# Altium footprint library DIO-SMA.PcbLib: 12 footprints
Each footprint in its own frame and in the unit in brackets; x right, y up, seen from the top. Pads: shape width x height; smd on the part's side, far side on the other; paste and mask are expansions set on the pad; w line width, h text height; cw(c..) or ccw(c..) is an arc to the next point about the centre after c.
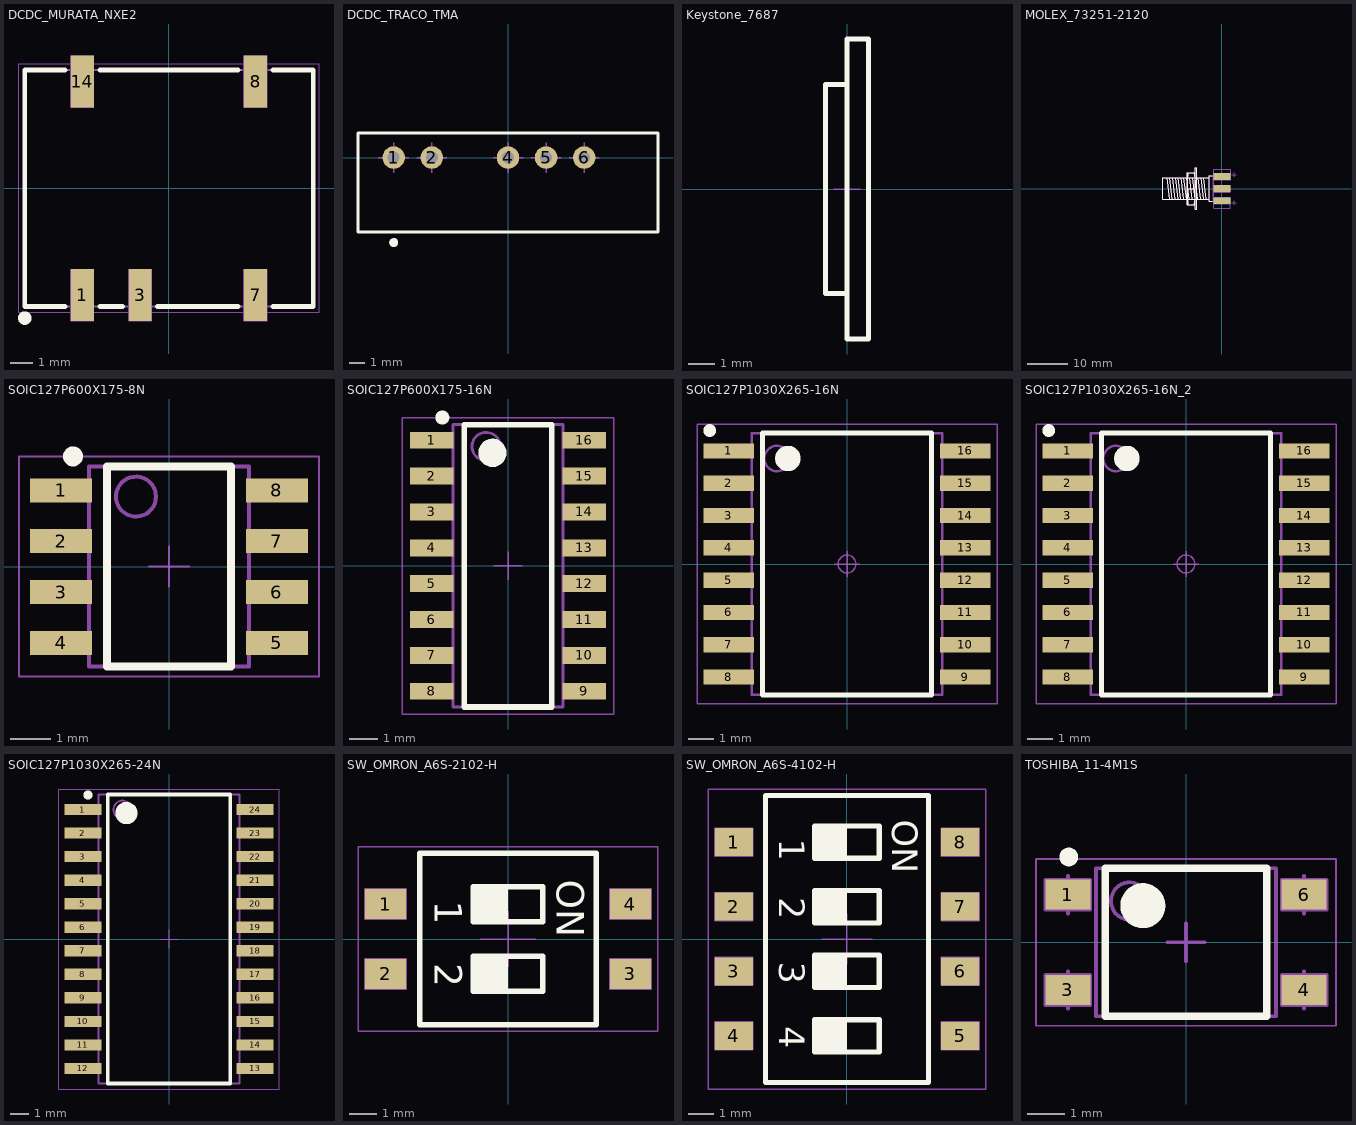
[diagram p0: the footprints below, top view; thin cyan lines are the x and y axes]

## DCDC_MURATA_NXE2 [mm] "NXE2 Series, Body 12.7 x 10.4, Height 4.4mm"
height 4.4
pads (5):
  rect 1x2.3 smd: 1(-3.81,-4.7) 3(-1.27,-4.7) 7(3.81,-4.7) 8(3.81,4.7) 14(-3.81,4.7)
Top Overlay:
  circle w0.3: c-6.35,-5.715 r0.15
  lines w0.203: -3.048,-5.207 -2.032,-5.207 ; -3.048,5.207 3.048,5.207 ; -0.508,-5.207 3.048,-5.207 ; 4.572,5.207 6.35,5.207 ; -4.572,-5.207 -6.35,-5.207 -6.35,5.207 -4.572,5.207 ; -4.572,-5.207 -4.572,-5.207 ; -4.572,5.207 -4.572,5.207 ; 4.572,-5.207 6.35,-5.207 6.35,5.207 ; 4.572,-5.207 4.572,-5.207 ; 6.35,5.207 6.35,5.207
Mechanical 8:
  lines w0.05: -4.31,-4.699 -3.81,-4.699 -3.31,-4.699 ; -4.31,4.701 -3.81,4.701 -3.31,4.701 ; -3.81,-5.842 -3.81,-4.101 -3.81,-3.601 ; -3.81,3.558 -3.81,5.299 -3.81,5.799 ; -1.77,-4.699 -1.27,-4.699 -0.77,-4.699 ; -1.27,-5.842 -1.27,-4.101 -1.27,-3.601 ; 3.31,-4.699 3.81,-4.699 4.31,-4.699 ; 3.31,4.701 3.81,4.701 4.31,4.701 ; 3.81,-5.842 3.81,-4.101 3.81,-3.601 ; 3.81,3.558 3.81,5.299 3.81,5.799 ; -4.318,-5.842 -3.302,-5.842 -3.302,-3.556 -4.318,-3.556 -4.318,-5.842 ; -4.318,3.558 -3.302,3.558 -3.302,5.844 -4.318,5.844 -4.318,3.558 ; -1.778,-5.842 -0.762,-5.842 -0.762,-3.556 -1.778,-3.556 -1.778,-5.842 ; 3.302,-5.842 3.302,-3.556 4.318,-3.556 4.318,-5.842 3.302,-5.842 ; 3.302,3.558 4.318,3.558 4.318,5.844 3.302,5.844 3.302,3.558
Mechanical 14:
  circle w0.1: c-6.35,-5.715 r0.2
  lines w0.1: -4.07,5.207 -6.35,5.207 -6.35,-5.207 ; -4.057,5.207 ccw(c-3.81,5.207) -3.563,5.207 3.55,5.207 ; -3.563,-5.207 ccw(c-3.81,-5.207) -4.057,-5.207 -6.35,-5.207 ; -3.55,-5.207 -1.517,-5.207 cw(c-1.27,-5.207) -1.023,-5.207 ; -1.01,-5.207 3.563,-5.207 cw(c3.81,-5.207) 4.057,-5.207 ; 3.563,5.207 ccw(c3.81,5.207) 4.057,5.207 6.35,5.207 ; 4.07,-5.207 6.35,-5.207 6.35,5.207 ; -6.35,-5.207 -6.35,-5.207 ; 6.35,5.207 6.35,5.207
Mechanical 15:
  lines w0.05: -6.604,-5.461 -6.604,5.485 6.604,5.485 6.604,-5.461 -6.604,-5.461
3D body "mps_dcdc_nxe2s_mc_a.step": height 4.41, standoff 0, extent -6.35,-5.207 6.35,5.207

## DCDC_TRACO_TMA [mm] "TMA Series , Body 19.5x6.1mm, SIP-6, Unregulated"
height 10.45
pads (5):
  round 1.5 hole 0.8: 1(-7.62,0) 2(-5.08,0) 4(0,0) 5(2.54,0) 6(5.08,0)
Top Overlay:
  circle w0.3: c-7.62,-5.667 r0.15
  lines w0.2: -10,-4.975 10,-4.975 10,1.625 -10,1.625 -10,-4.975
Mechanical 8:
  lines w0.1: -8.62,0 -7.62,0 ; -7.62,-1 -7.62,0 ; -7.62,1 -7.62,0 ; -6.62,0 -7.62,0 ; -6.08,0 -5.08,0 ; -5.08,-1 -5.08,0 ; -5.08,1 -5.08,0 ; -4.08,0 -5.08,0 ; -1,0 0,0 ; 0,-1 0,0 ; 0,1 0,0 ; 1,0 0,0 ; 1.54,0 2.54,0 ; 2.54,-1 2.54,0 ; 2.54,1 2.54,0 ; 3.54,0 2.54,0 ; 4.08,0 5.08,0 ; 5.08,-1 5.08,0 ; 5.08,1 5.08,0 ; 6.08,0 5.08,0
Mechanical 14:
  lines w0.1: -10,-4.975 10,-4.975 10,1.625 -10,1.625 -10,-4.975
  text "6" at 5.863,-2.157 h1.5
  text "1" at -6.87,-2.03 h1.5
3D body "DCDC_TRACO_TMA.stp": height 10.45, standoff -3.2, extent -10,-4.975 10,1.725

## Keystone_7687 [mm] "Polyphenylene Sulfide PPS Shoulder Washer"
height 8
Top Overlay:
  lines w0.2: 0,-3.9 -0.8,-3.9 -0.8,3.9 0,3.9 ; 0,-5.6 0.8,-5.6 0.8,5.6 0,5.6 0,-5.6
Mechanical 8:
  lines w0.05: -0.5,0 0,0 ; 0,-0.5 0,0 ; 0,0.5 0,0 ; 0.5,0 0,0
Mechanical 14:
  lines w0.1: 0,-3.9 -0.8,-3.9 -0.8,3.9 0,3.9 ; 0,-5.6 0.8,-5.6 0.8,5.6 0,5.6 0,-5.6

## MOLEX_73251-2120 [mm] "50 Ohm, SMA Edge Mount PCB, With Jam Nut And Lock Washer"
height 6.35
pads (5):
  rect 4.19x1.78 smd: 1(0,0)
  rect 4.19x1.7 smd: 2(0,-3) 2(0,3)
  rect 4.19x1.7 smd far side: 2(0,-3) 2(0,3)
Top Overlay:
  lines w0.2: -13.763,2.642 -13.132,-2.642 ; -13.059,2.642 -12.428,-2.642 ; -12.355,2.642 -11.724,-2.642 ; -11.651,2.642 -11.02,-2.642 ; -10.947,2.642 -10.316,-2.642 ; -10.243,2.642 -9.612,-2.642 ; -9.557,2.642 -8.926,-2.642 ; -8.835,2.642 -8.204,-2.642 ; -8.435,-3.937 cw(c9.828,-1.208) -8.599,0 ; -8.435,3.937 ccw(c9.828,1.208) -8.599,0 ; -8.131,2.642 -7.5,-2.642 ; -7.427,2.642 -6.796,-2.642 ; -6.831,-3.937 ccw(c-26.385,-1.064) -6.65,0 ; -6.831,3.937 cw(c-26.197,1.073) -6.65,0 ; -6.723,2.642 -6.092,-2.642 ; -6.019,2.642 -5.388,-2.642 ; -5.315,2.642 -4.684,-2.642 ; -4.611,2.642 -3.98,-2.642 ; -3.211,-2.642 -14.641,-2.642 -14.641,2.642 -3.211,2.642 ; -2.445,-3.175 -3.211,-3.175 -3.211,3.175 -2.445,3.175 ; -8.599,0 -6.65,0 ; -8.599,-3.937 -8.599,3.937 -6.668,3.937 -6.668,-3.937 -8.599,-3.937 ; -6.668,-5.131 -6.668,5.131 -6.211,5.131 -6.211,-5.131 -6.668,-5.131
Mechanical 8:
  lines w0.1: -0.5,-3.492 0,-3.492 ; -0.5,0 0,0 ; -0.5,3.492 0,3.492 ; 0,-3.992 0,-3.492 ; 0,-2.993 0,-3.492 ; 0,-0.5 0,0 ; 0,0.5 0,0 ; 0,2.993 0,3.492 ; 0,3.992 0,3.492 ; 0.5,-3.492 0,-3.492 ; 0.5,0 0,0 ; 0.5,3.492 0,3.492 ; 2.485,-3.492 2.985,-3.492 ; 2.485,3.492 2.985,3.492 ; 2.985,-3.992 2.985,-3.492 ; 2.985,-2.993 2.985,-3.492 ; 2.985,2.993 2.985,3.492 ; 2.985,3.992 2.985,3.492 ; 3.485,-3.492 2.985,-3.492 ; 3.485,3.492 2.985,3.492 ; -2.095,-4.825 2.095,-4.825 2.095,-2.16 -2.095,-2.16 -2.095,-4.825 ; -2.095,-4.825 -2.095,0 -2.095,4.825 ; -2.095,4.825 2.134,4.825 2.134,2.16 -2.095,2.16 -2.095,4.825 ; -2.095,-0.89 2.095,-0.89 2.095,0.89 -2.095,0.89 -2.095,-0.89
Mechanical 14:
  lines w0.1: -13.763,2.642 -13.132,-2.642 ; -13.059,2.642 -12.428,-2.642 ; -12.355,2.642 -11.724,-2.642 ; -11.651,2.642 -11.02,-2.642 ; -10.947,2.642 -10.316,-2.642 ; -10.243,2.642 -9.612,-2.642 ; -9.557,2.642 -8.926,-2.642 ; -8.835,2.642 -8.204,-2.642 ; -8.435,-3.937 cw(c9.828,-1.208) -8.599,0 ; -8.435,3.937 ccw(c9.828,1.208) -8.599,0 ; -8.131,2.642 -7.5,-2.642 ; -7.427,2.642 -6.796,-2.642 ; -6.831,-3.937 ccw(c-26.385,-1.064) -6.65,0 ; -6.831,3.937 cw(c-26.197,1.073) -6.65,0 ; -6.723,2.642 -6.092,-2.642 ; -6.019,2.642 -5.388,-2.642 ; -5.315,2.642 -4.684,-2.642 ; -4.611,2.642 -3.98,-2.642 ; -3.211,-2.642 -14.641,-2.642 -14.641,2.642 -3.211,2.642 ; -2.195,-3.175 -2.195,3.175 ; -2.195,-0.623 1.361,-0.635 1.615,-0.381 1.615,0.362 1.361,0.635 -2.195,0.635 ; -8.599,0 -6.65,0 ; -8.599,-3.937 -8.599,3.937 -6.668,3.937 -6.668,-3.937 -8.599,-3.937 ; -6.668,-5.131 -6.668,5.131 -6.211,5.131 -6.211,-5.131 -6.668,-5.131 ; -3.211,-3.175 -3.211,3.175 1.615,3.175 1.615,2.159 -2.195,2.159 -2.195,-2.159 1.615,-2.159 1.615,-3.175 -3.211,-3.175
3D body "MOLEX_73251-2121_Part2.stp": height 5.76, standoff -4.49, extent -8.598,-5.131 -6.211,5.131
3D body "MOLEX_73251-2121_Part1.stp": height 3.81, standoff -2.54, extent -14.641,-3.175 1.615,3.175

## SOIC127P600X175-8N [mm] "SOIC 8, Pitch 1.27mm - Body 4x5mm, IPC Medium Density"
height 1.75
pads (8):
  rect 1.55x0.6 smd: 1(-2.7,1.905) 2(-2.7,0.635) 3(-2.7,-0.635) 4(-2.7,-1.905) 5(2.7,-1.905) 6(2.7,-0.635) 7(2.7,0.635) 8(2.7,1.905)
Top Overlay:
  circle w0.25: c-2.4,2.755 r0.125
  lines w0.2: -1.55,-2.5 -1.55,2.5 1.55,2.5 1.55,-2.5 -1.55,-2.5
Mechanical 14:
  circle w0.1: c-0.825,1.75 r0.5
  lines w0.1: -2,-2.5 -2,2.5 2,2.5 2,-2.5 -2,-2.5
Mechanical 15:
  lines w0.05: -0.5,0 0.5,0 ; 0,-0.5 0,0.5 ; -3.75,-2.75 -3.75,2.75 3.75,2.75 3.75,-2.75 -3.75,-2.75
3D body "SOIC127P600X175-8N.stp": height 1.75, standoff 0, extent -3.1,-2.5 3.1,2.5

## SOIC127P600X175-16N [mm] "SOIC 16, Pitch 1.27mm - Body 4x10mm, IPC Medium Density"
height 1.75
pads (16):
  rect 1.55x0.6 smd: 1(-2.7,4.445) 2(-2.7,3.175) 3(-2.7,1.905) 4(-2.7,0.635) 5(-2.7,-0.635) 6(-2.7,-1.905) 7(-2.7,-3.175) 8(-2.7,-4.445) 9(2.7,-4.445) 10(2.7,-3.175) 11(2.7,-1.905) 12(2.7,-0.635) 13(2.7,0.635) 14(2.7,1.905) 15(2.7,3.175) 16(2.7,4.445)
Top Overlay:
  circle w0.5: c-0.55,4 r0.25
  circle w0.25: c-2.325,5.25 r0.125
  lines w0.2: -1.55,-5 1.55,-5 1.55,5 -1.55,5 -1.55,-5
Mechanical 14:
  circle w0.1: c-0.775,4.225 r0.5
  lines w0.1: -1.95,-5 -1.95,5 1.95,5 1.95,-5 -1.95,-5
Mechanical 15:
  lines w0.05: -0.5,0 0.5,0 ; 0,-0.5 0,0.5 ; -3.75,-5.25 3.75,-5.25 3.75,5.25 -3.75,5.25 -3.75,-5.25
3D body "SOIC127P600X175-16N.stp": height 1.75, standoff 0, extent -3.1,-5 3.1,5

## SOIC127P1030X265-16N [mm] "SOIC, 1.27mm Pitch; 16 Pin, 7.50mm W X 10.3mm L X 2.65mm H body, IPC Medium Density"
height 2.65
pads (16):
  rect 2x0.6 smd: 1(-4.65,4.445) 2(-4.65,3.175) 3(-4.65,1.905) 4(-4.65,0.635) 5(-4.65,-0.635) 6(-4.65,-1.905) 7(-4.65,-3.175) 8(-4.65,-4.445) 9(4.65,-4.445) 10(4.65,-3.175) 11(4.65,-1.905) 12(4.65,-0.635) 13(4.65,0.635) 14(4.65,1.905) 15(4.65,3.175) 16(4.65,4.445)
Top Overlay:
  circle w0.5: c-2.325,4.15 r0.25
  circle w0.25: c-5.4,5.25 r0.125
  lines w0.2: -3.325,-5.15 3.325,-5.15 3.325,5.15 -3.325,5.15 -3.325,-5.15
Mechanical 14:
  circle w0.1: c-2.75,4.15 r0.5
  lines w0.1: -3.75,-5.15 3.75,-5.15 3.75,5.15 -3.75,5.15 -3.75,-5.15
Mechanical 15:
  circle w0.05: c0,0 r0.35
  lines w0.05: -0.5,0 0.5,0 ; 0,-0.5 0,0.5 ; -5.9,-5.5 5.9,-5.5 5.9,5.5 -5.9,5.5 -5.9,-5.5
3D body "SOIC127P1030X265-16N.stp": height 1.68, standoff 0, extent -5.18,-5.25 5.18,5.25

## SOIC127P1030X265-16N_2 [mm]
pads (16):
  rect 2x0.6 smd: 1(-4.65,4.445) 2(-4.65,3.175) 3(-4.65,1.905) 4(-4.65,0.635) 5(-4.65,-0.635) 6(-4.65,-1.905) 7(-4.65,-3.175) 8(-4.65,-4.445) 9(4.65,-4.445) 10(4.65,-3.175) 11(4.65,-1.905) 12(4.65,-0.635) 13(4.65,0.635) 14(4.65,1.905) 15(4.65,3.175) 16(4.65,4.445)
Top Overlay:
  circle w0.25: c-5.4,5.25 r0.125
  circle w0.5: c-2.325,4.15 r0.25
  lines w0.2: -3.325,-5.15 -3.325,5.15 3.325,5.15 3.325,-5.15 -3.325,-5.15
Mechanical 14:
  circle w0.1: c-2.75,4.15 r0.5
  lines w0.1: -3.75,-5.15 -3.75,5.15 3.75,5.15 3.75,-5.15 -3.75,-5.15
Mechanical 15:
  circle w0.05: c0,0 r0.35
  lines w0.05: -0.5,0 0.5,0 ; 0,-0.5 0,0.5 ; -5.9,-5.5 -5.9,5.5 5.9,5.5 5.9,-5.5 -5.9,-5.5
3D body "SOIC127P1030X265-16N.stp": height 1.68, standoff 0, extent -5.18,-5.25 5.18,5.25

## SOIC127P1030X265-24N [mm] "SOIC 24, Pitch 1.27mm - Body 7.6x15.6mm, IPC Medium Density"
height 2.65
pads (24):
  rect 2x0.6 smd: 1(-4.65,6.985) 2(-4.65,5.715) 3(-4.65,4.445) 4(-4.65,3.175) 5(-4.65,1.905) 6(-4.65,0.635) 7(-4.65,-0.635) 8(-4.65,-1.905) 9(-4.65,-3.175) 10(-4.65,-4.445) 11(-4.65,-5.715) 12(-4.65,-6.985) 13(4.65,-6.985) 14(4.65,-5.715) 15(4.65,-4.445) 16(4.65,-3.175) 17(4.65,-1.905) 18(4.65,-0.635) 19(4.65,0.635) 20(4.65,1.905) 21(4.65,3.175) 22(4.65,4.445) 23(4.65,5.715) 24(4.65,6.985)
Top Overlay:
  circle w0.6: c-2.3,6.8 r0.3
  circle w0.25: c-4.375,7.775 r0.125
  lines w0.2: -3.3,-7.8 -3.3,7.8 3.3,7.8 3.3,-7.8 -3.3,-7.8
Mechanical 14:
  circle w0.1: c-2.5,6.975 r0.5
  lines w0.1: -3.8,-7.8 3.8,-7.8 3.8,7.8 -3.8,7.8 -3.8,-7.8
Mechanical 15:
  lines w0.05: -0.5,0 0.5,0 ; 0,-0.5 0,0.5 ; -5.95,-8.1 -5.95,8.1 5.95,8.1 5.95,-8.1 -5.95,-8.1
3D body "SOIC127P1030X265-24N.stp": height 1.68, standoff 0, extent -5.18,-7.8 5.18,7.8

## SW_OMRON_A6S-2102-H [mm] "Pitch 2.54mm, Body 6.2x6.4mm, 2 Ways SPST Surface-Mounting DIP Switch, OMRON A6S-H"
height 3.8
pads (4):
  rect 1.5x1.1 smd: 1(-4.45,1.27) 2(-4.45,-1.27) 3(4.45,-1.27) 4(4.45,1.27)
Top Overlay:
  region: -1.27,-0.635 -1.27,-1.905 0,-1.905 0,-0.635
  region: -1.27,1.905 -1.27,0.635 0,0.635 0,1.905
  lines w0.2: -3.2,-3.11 -3.2,3.11 3.2,3.11 3.2,-3.11 -3.2,-3.11 ; -1.27,-1.905 1.27,-1.905 1.27,-0.635 -1.27,-0.635 -1.27,-1.905 ; -1.27,0.635 -1.27,1.905 1.27,1.905 1.27,0.635 -1.27,0.635
  text "ON" at 1.778,2.159 h1
  text "2" at -2.667,-0.889 h1
  text "1" at -2.667,1.397 h1
Mechanical 8:
  lines w0.05: -5.2,1.27 -4.45,1.27 -4.45,0.72 ; -1,0 1,0 ; 0,-1 0,1 ; -5.2,-1.82 -3.7,-1.82 -3.7,-0.72 -5.2,-0.72 -5.2,-1.82 ; -5.2,0.72 -3.7,0.72 -3.7,1.82 -5.2,1.82 -5.2,0.72 ; 3.7,-1.82 3.7,-0.72 5.2,-0.72 5.2,-1.82 3.7,-1.82 ; 3.7,0.72 5.2,0.72 5.2,1.82 3.7,1.82 3.7,0.72
Mechanical 14:
  region: -1.27,1.905 -1.27,0.635 0,0.635 0,1.905
  region: -1.27,-0.635 -1.27,-1.905 0,-1.905 0,-0.635
  lines w0.1: -3.2,-3.11 3.2,-3.11 3.2,3.11 -3.2,3.11 -3.2,-3.11 ; -1.27,-1.905 1.27,-1.905 1.27,-0.635 -1.27,-0.635 -1.27,-1.905 ; -1.27,0.635 -1.27,1.905 1.27,1.905 1.27,0.635 -1.27,0.635
  text "ON" at 1.778,2.159 h1
  text "2" at -2.667,-0.889 h1
  text "1" at -2.667,1.397 h1
Mechanical 15:
  lines w0.05: -5.45,-3.36 -5.45,3.36 5.45,3.36 5.45,-3.36 -5.45,-3.36
3D body "SW_OMRON_A6S-2102-H.stp": height 3.97, standoff 0, extent -4.901,-3.01 4.902,3.01

## SW_OMRON_A6S-4102-H [mm] "Pitch 2.54mm, Body 11.3x6.4mm, 4 Ways SPST Surface-Mounting DIP Switch, OMRON A6S-H"
height 3.8
pads (8):
  rect 1.5x1.1 smd: 1(-4.45,3.81) 2(-4.45,1.27) 3(-4.45,-1.27) 4(-4.45,-3.81) 5(4.45,-3.81) 6(4.45,-1.27) 7(4.45,1.27) 8(4.45,3.81)
Top Overlay:
  region: -1.27,-3.175 -1.27,-4.445 0,-4.445 0,-3.175
  region: -1.27,-0.635 -1.27,-1.905 0,-1.905 0,-0.635
  region: -1.27,1.905 -1.27,0.635 0,0.635 0,1.905
  region: -1.27,4.445 -1.27,3.175 0,3.175 0,4.445
  lines w0.2: -3.2,-5.65 -3.2,5.65 3.2,5.65 3.2,-5.65 -3.2,-5.65 ; -1.27,-4.445 -1.27,-3.175 1.27,-3.175 1.27,-4.445 -1.27,-4.445 ; -1.27,-1.905 -1.27,-0.635 1.27,-0.635 1.27,-1.905 -1.27,-1.905 ; -1.27,0.635 1.27,0.635 1.27,1.905 -1.27,1.905 -1.27,0.635 ; -1.27,3.175 -1.27,4.445 1.27,4.445 1.27,3.175 -1.27,3.175
  text "4" at -2.667,-3.429 h1
  text "3" at -2.667,-0.889 h1
  text "ON" at 1.778,4.699 h1
  text "2" at -2.667,1.651 h1
  text "1" at -2.667,3.937 h1
Mechanical 8:
  lines w0.05: -1,0 1,0 ; 0,-1 0,1 ; -5.2,-4.36 -5.2,-3.26 -3.7,-3.26 -3.7,-4.36 -5.2,-4.36 ; -5.2,-1.82 -5.2,-0.72 -3.7,-0.72 -3.7,-1.82 -5.2,-1.82 ; -5.2,0.72 -5.2,1.82 -3.7,1.82 -3.7,0.72 -5.2,0.72 ; -5.2,3.26 -5.2,4.36 -3.7,4.36 -3.7,3.26 -5.2,3.26 ; -3.2,-5.65 -3.2,5.65 3.2,5.65 3.2,-5.65 -3.2,-5.65 ; 3.7,-4.36 5.2,-4.36 5.2,-3.26 3.7,-3.26 3.7,-4.36 ; 3.7,-1.82 5.2,-1.82 5.2,-0.72 3.7,-0.72 3.7,-1.82 ; 3.7,0.72 5.2,0.72 5.2,1.82 3.7,1.82 3.7,0.72 ; 3.7,3.26 5.2,3.26 5.2,4.36 3.7,4.36 3.7,3.26
Mechanical 14:
  region: -1.27,-3.175 -1.27,-4.445 0,-4.445 0,-3.175
  region: -1.27,-0.635 -1.27,-1.905 0,-1.905 0,-0.635
  region: -1.27,4.445 -1.27,3.175 0,3.175 0,4.445
  region: -1.27,1.905 -1.27,0.635 0,0.635 0,1.905
  lines w0.1: -3.2,-5.65 3.2,-5.65 3.2,5.65 -3.2,5.65 -3.2,-5.65 ; -1.27,-4.445 -1.27,-3.175 1.27,-3.175 1.27,-4.445 -1.27,-4.445 ; -1.27,-1.905 -1.27,-0.635 1.27,-0.635 1.27,-1.905 -1.27,-1.905 ; -1.27,0.635 1.27,0.635 1.27,1.905 -1.27,1.905 -1.27,0.635 ; -1.27,3.175 -1.27,4.445 1.27,4.445 1.27,3.175 -1.27,3.175
  text "4" at -2.667,-3.429 h1
  text "3" at -2.667,-0.889 h1
  text "ON" at 1.778,4.699 h1
  text "2" at -2.667,1.651 h1
  text "1" at -2.667,3.937 h1
Mechanical 15:
  lines w0.05: -5.45,-5.9 5.45,-5.9 5.45,5.9 -5.45,5.9 -5.45,-5.9
3D body "SW_OMRON_A6S-4102-H.stp": height 3.97, standoff 0, extent -4.901,-5.55 4.902,5.55

## TOSHIBA_11-4M1S [mm] "SOIC,1.27mm Pitch; 4 pin, TOSHIBA Case (5mm Creepage)"
height 2.3
pads (4):
  rect 1.2x0.8 smd: 1(-3.15,1.27) 3(-3.15,-1.27) 4(3.15,-1.27) 6(3.15,1.27)
Top Overlay:
  circle w0.25: c-3.125,2.275 r0.125
  circle w0.6: c-1.15,0.975 r0.3
  lines w0.2: -2.15,-1.975 -2.15,1.975 2.15,1.975 2.15,-1.975 -2.15,-1.975
Mechanical 8:
  lines w0.1: -3.65,-1.27 -3.15,-1.27 ; -3.65,1.27 -3.15,1.27 ; -3.15,-1.77 -3.15,-1.27 ; -3.15,-0.77 -3.15,-1.27 ; -3.15,0.77 -3.15,1.27 ; -3.15,1.77 -3.15,1.27 ; -2.65,-1.27 -3.15,-1.27 ; -2.65,1.27 -3.15,1.27 ; -0.5,0 0,0 ; 0,-0.5 0,0 ; 0,0.5 0,0 ; 0.5,0 0,0 ; 2.65,-1.27 3.15,-1.27 ; 2.65,1.27 3.15,1.27 ; 3.15,-1.77 3.15,-1.27 ; 3.15,-0.77 3.15,-1.27 ; 3.15,0.77 3.15,1.27 ; 3.15,1.77 3.15,1.27 ; 3.65,-1.27 3.15,-1.27 ; 3.65,1.27 3.15,1.27 ; -3.75,-1.67 -2.55,-1.67 -2.55,-0.87 -3.75,-0.87 -3.75,-1.67 ; -3.75,0.87 -2.55,0.87 -2.55,1.67 -3.75,1.67 -3.75,0.87 ; 2.55,-1.67 3.75,-1.67 3.75,-0.87 2.55,-0.87 2.55,-1.67 ; 2.55,0.87 3.75,0.87 3.75,1.67 2.55,1.67 2.55,0.87
Mechanical 14:
  circle w0.1: c-1.5,1.1 r0.5
  lines w0.1: -2.4,-1.975 2.4,-1.975 2.4,1.975 -2.4,1.975 -2.4,-1.975
Mechanical 15:
  lines w0.05: -4,-2.225 4,-2.225 4,2.225 -4,2.225 -4,-2.225
3D body "TOSHIBA_11-4M1S.stp": height 2.3, standoff 0, extent -3.7,-1.975 3.7,1.975